# Altium schematic symbol library MAIN BOARD CERES.SCHLIB: 68 symbols (part 1 of 2)
Pins are listed as number, name and electrical type; pins without a type are passive.

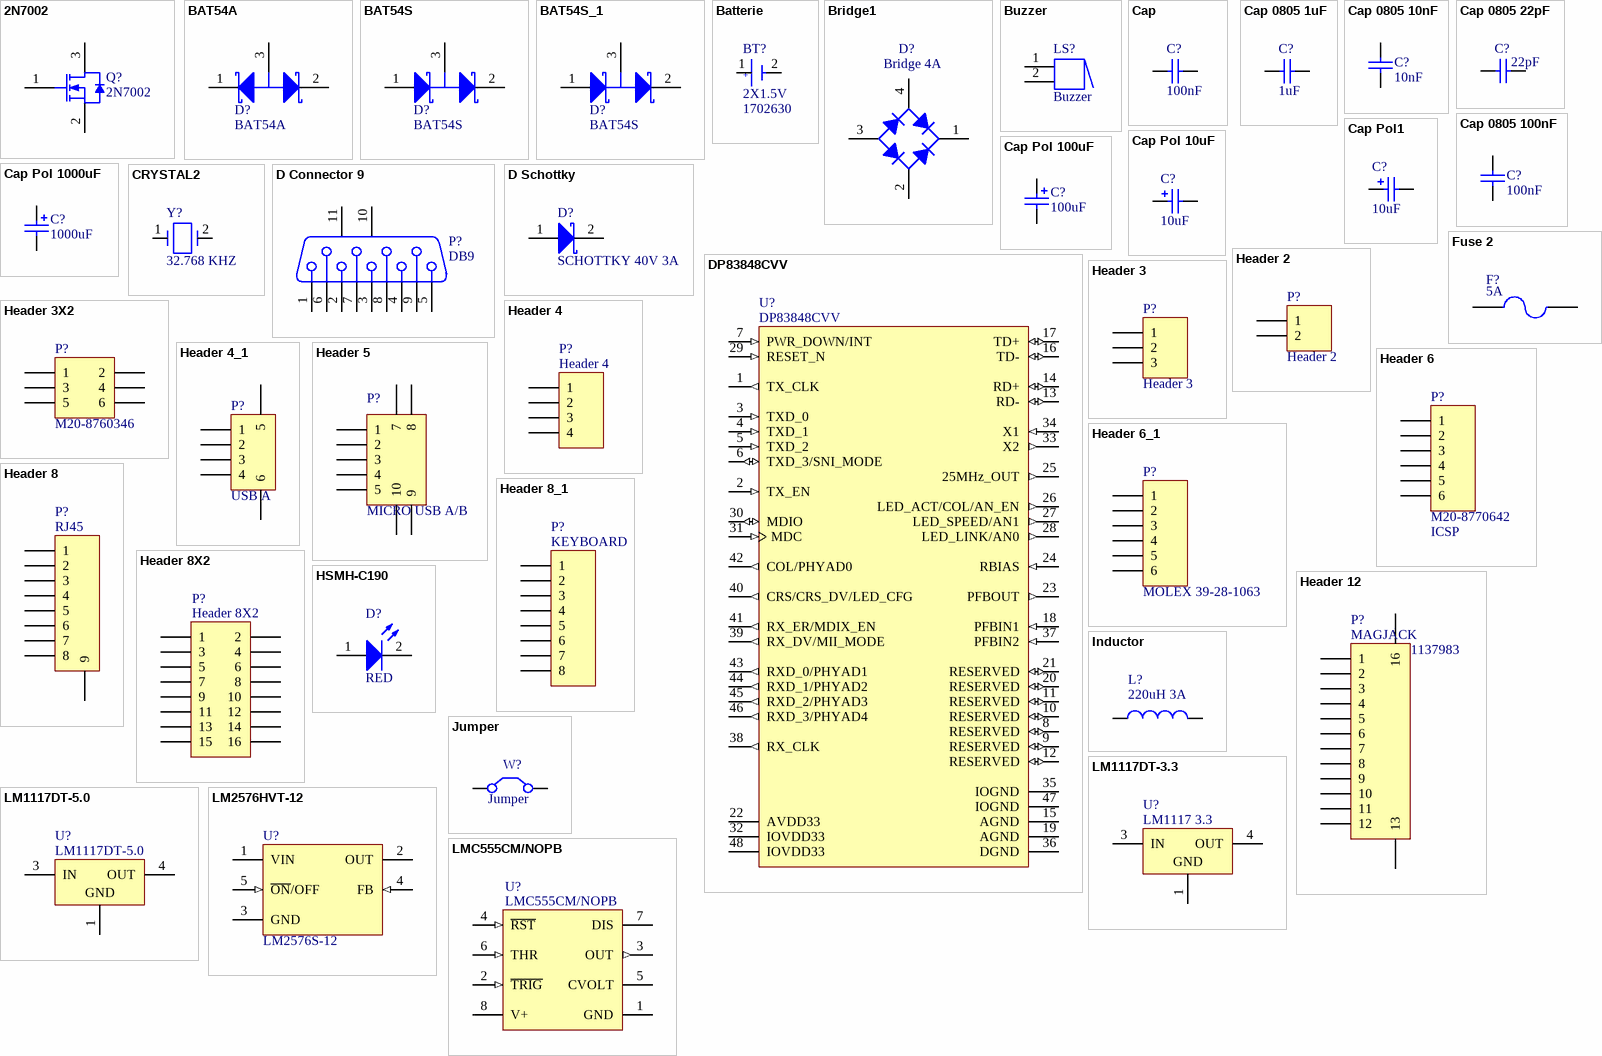
[diagram p0: symbols 2N7002 to LMC555CM/NOPB]

## 2N7002
designator Q?
N-channel Enhancement Mode Field-effect Transistor; Manufacturer: STMICROELECTRONICS; Published: 17-Sep-2003; LatestRevisionDate: 12-Dec-2006; LatestRevisionNote: IPC-7351 Footprint Added.; DatasheetVersion: 27-Jul-2000; PackageVersion: May-1999; PackageReference: SOT23; Publisher: Altium Limited; PackageDescription: 3-Pin SOT-23 Package 0.95 mm Pitch, 2.3 mm Lead Span; ComponentLink1Description: Manufacturer Link; ComponentLink1URL: http://www.semiconductors.philips.com/; ComponentLink2Description: Datasheet; ComponentLink2URL: http://www.semiconductors.philips.com/acrobat/datasheets/2N7002_4.pdf; Supplier 1: Farnell; Supplier Part Number 1: 9512608; Manufacturer Part Number: 2N7002; RoHS: YES; Pricing 1: 1=0,56, 25=0,48, 100=0,44, 250=0,43, 1000=0,42 (EUR); ComponentLink3URL: http://www.st.com/web/en/resource/technical/document/datasheet/CD00005134.pdf; ComponentLink3Description: http://www.st.com/web/en/resource/technical/document/datasheet/CD00005134.pdf
simulation model 2N7002 (SUBCKT)
footprint SOT23
pins: 1 G, 2 S, 3 D

## BAT54A
designator D?
Schottky Barrier Double Diode; Manufacturer: FAIRCHILD SEMICONDUCTOR; Courant, If moy.: 200; Tension, Vrrm: 30; Tension, Vf max..: 320; Temps trr max.: 5; Courant, Ifs max.: 600; Température d'utilisation min: -55; Température de fonctionnement max..: 150; Type de boîtier diode: SOT-23; Nombre de broches: 3; SVHC: No SVHC (20-Jun-2013); Configuration diode: Double anode commune; Courant, If, Vf: 1; Marquage, CMS: L42; Température de fonctionnement: -55°C à +150; Type de terminaison: SMD; Supplier 1: Farnell; Supplier Part Number 1: 1228222; Manufacturer Part Number: BAT54A; RoHS: YES; Pricing 1: 5=0,084, 25=0,082, 100=0,036, 1000=0,032, 3000=0,03 (EUR); Diode Type: Schottky; MSL: MSL 1 - Illimité; Température, Tj max..: 150; Type de boîtier: SOT-23; courant Ifsm: 600; ComponentLink1URL: http://www.farnell.com/datasheets/1718084.pdf; ComponentLink1Description: http://www.farnell.com/datasheets/1718084.pdf; ComponentLink2URL: http://www.farnell.com/datasheets/410597.pdf; ComponentLink2Description: http://www.farnell.com/datasheets/410597.pdf
footprint SOT23
pins: 1 K1, 2 K2, 3 A

## BAT54S
designator D?
Schottky Barrier Double Diode; Manufacturer: MULTICOMP; Courant, If moy.: 200; Tension, Vrrm: 30; Tension, Vf max..: 400; Temps trr max.: 5; Courant, Ifs max.: 600; Type de boîtier diode: SOT-23; Nombre de broches: 3; SVHC: No SVHC (19-Dec-2012); Configuration diode: Dual Series; Température, Tj max..: 150; Type de terminaison: SMD; Température d'utilisation min: -55; Courant, If, Vf: 10; Courant, Ir, max..: 2; Marquage, CMS: L44; Température de fonctionnement: -55°C à +150; Supplier 1: Farnell; Supplier Part Number 1: 1621835; Manufacturer Part Number: BAT54S; RoHS: YES; Stock 1: 52055; Pricing 1: 10=0,102, 250=0,074, 1000=0,06, 3000=0,053 (EUR); Diode Type: Schottky; Type de boîtier: SOT-23; courant Ifsm: 600; ComponentLink1URL: http://www.farnell.com/datasheets/1317753.pdf; ComponentLink1Description: http://www.farnell.com/datasheets/1317753.pdf; Température de fonctionnement max..: 150
footprint SOT23
pins: 1 A, 2 K, 3 C

## BAT54S_1
designator D?, comment BAT54S
Schottky Barrier Double Diode; Manufacturer: MULTICOMP; Published: 17-Sep-2003; LatestRevisionDate: 12-Dec-2006; LatestRevisionNote: IPC-7351 Footprint Added.; DatasheetVersion: 4-Mar-2002; PackageVersion: May-1999; PackageReference: SOT23; Publisher: Altium Limited; PackageDescription: 3-Pin SOT-23 Package 0.95 mm Pitch, 2.3 mm Lead Span; ComponentLink1Description: Manufacturer Link; ComponentLink1URL: http://www.semiconductors.philips.com/; ComponentLink2Description: Datasheet; ComponentLink2URL: http://www.semiconductors.philips.com/acrobat/datasheets/BAT54_SERIES_4.pdf; Supplier 1: Farnell; Supplier Part Number 1: 1621835; Manufacturer Part Number: BAT54S; RoHS: YES; Stock 1: 51548; Pricing 1: 10=0,102, 250=0,074, 1000=0,06, 3000=0,053 (EUR); ComponentLink3URL: http://www.farnell.com/datasheets/1317753.pdf; ComponentLink3Description: http://www.farnell.com/datasheets/1317753.pdf
footprint SOT-23
pins: 1 A, 2 K, 3 C

## Batterie
designator BT?, comment 2X1.5V  Supplier Part Number 1: 1702630
Manufacturer: KEYSTONE; Manufacturer Part Number: 2462; Battery Sizes Accepted: AA; Nombre de piles: 2; Montage support de batterie: Traversant; Cosses de batterie: Broches CI; SVHC: No SVHC (19-Dec-2012); A utiliser avec: AA Batteries; Type d'accessoire: Battery Holder; Type de borne: CI; Type de montage: Trou traversant PCB; Supplier 1: Farnell; RoHS: YES; Stock 1: 941; Pricing 1: 1=1,3, 25=1,2, 50=1,09, 100=1,02, 250=0,94 (EUR); Nombre de cellules: 2; Tailles de batterie acceptées: AA; ComponentLink1URL: http://www.farnell.com/cad/1714047.pdf; ComponentLink1Description: http://www.farnell.com/cad/1714047.pdf; ComponentLink2URL: http://www.keyelco.com/pdfs/p20.pdf; ComponentLink2Description: http://www.keyelco.com/pdfs/p20.pdf
footprint 2462 (Support pile AA X 2 Keystone)
pins: 1 +, 2

## Bridge1
designator D?, comment Bridge 4A
Full Wave Diode Bridge; Manufacturer: VISHAY GENERAL SEMICONDUCTOR; Manufacturer Part Number: GBU6B-E3/45; Nombre de phases: Une; Tension, Vrrm: 100; Courant, If moy.: 6; Tension, Vf max..: 1; Type de boîtier pont redresseur: GBU; Nombre de broches: 4; Diode Mounting Type: Traversant; Température d'utilisation min: -55; Température de fonctionnement max..: 150; Configuration diode: Double; Courant, Ifs max.: 175; Diode Type: Pont redresseur, monophasé; Hauteur: 18.8; Inflammabilité: UL; Largeur (externe): 22.3; Marquage composant: GBU6; Profondeur: 3.56; Température de fonctionnement: -55°C à +150; Température, Ta: 40; Tension, entrée: 70; Type de borne: Wire lead; Supplier 1: Farnell; Supplier Part Number 1: 9549480; RoHS: YES; Pricing 1: 1=0,53, 25=0,51, 100=0,5, 1000=0,49 (EUR); Courant, sortie max.: 6; Hauteur corps max..: 18.8; Longueur/hauteur: 18.8; Tension, entrée efficace: 70; Type de boîtier: GBU; ComponentLink1URL: http://www.vishay.com/doc?88615; ComponentLink1Description: http://www.vishay.com/doc?88615
simulation model BRIDGE (Spice Subcircuit)
footprint Pont GBU
pins: 1 K, 2 C, 3 A, 4 C

## Buzzer
designator LS?
Magnetic Transducer Buzzer; Published: 24-Mar-1999; LatestRevisionDate: 17-Dec-2003; LatestRevisionNote: Schematic revised, PCB Footprint replaced.; DatasheetVersion: 17-Dec-2003; PackageReference: ABSM-1574; Publisher: Altium Limited; PackageDescription: Magnetic Transducer Buzzer; ComponentLink1Description: Manufacturer Link; ComponentLink1URL: http://www.megastar.com/linecard/buzzmode/index.php
footprint Buzzer ABI-017-RC (1504107)
pins: 1, 2
1 alternate drawing of the same symbol

## Cap
designator C?, comment 100nF
Capacitor; Manufacturer: MULTICOMP; Manufacturer Part Number: MCCA000296; Supplier 1: Farnell; Supplier Part Number 1: 1759167; Stock 1: 225269; Pricing 1: 100=0,01, 500=0,008, 1000=0,006, 4000=0,005 (EUR); ComponentLink1URL: http://www.farnell.com/datasheets/1520827.pdf; ComponentLink1Description: http://www.farnell.com/datasheets/1520827.pdf
simulation model CAP (Capacitor)
signal-integrity model Cap
footprint C0805
pins: 1, 2

## Cap 0805 1uF
designator C?, comment 1uF
Capacitor; Manufacturer: MULTICOMP; Manufacturer Part Number: MCCA000549; Product Range: MULTICOMP - MCCA Series; Capacité: 1; Tolérance de capacité: +80%, -20%; Diélectrique: Y5; Type de boîtier de condensateur: 0805 [2012 Metric]; Type de packaging: Cut Tape; SVHC: No SVHC (20-Jun-2013); Capacitor Terminals: SMD; Température de fonctionnement: -30°C à +85; Supplier 1: Farnell; RoHS: YES; Pricing 1: 100=0,018, 500=0,012, 1000=0,009, 3000=0,006 (EUR); ComponentLink1URL: http://www.farnell.com/datasheets/1723208.pdf; ComponentLink1Description: http://www.farnell.com/datasheets/1723208.pdf; Supplier Part Number 1: 1759429
simulation model CAP (Semiconductor Capacitor)
signal-integrity model Cap Semi
footprint C0805
pins: 1, 2

## Cap 0805 10nF
designator C?, comment 10nF
Capacitor; Manufacturer: MULTICOMP; Manufacturer Part Number: MC0805B103M500CT; Supplier 1: Farnell; RoHS: YES; Pricing 1: 1=0,009, 10=0,008, 100=0,008, 500=0,006, 1000=0,006 (EUR); ComponentLink1URL: http://www.newark.com/pdfs/datasheets/spc/Ta-1100.pdf; ComponentLink1Description: http://www.newark.com/pdfs/datasheets/spc/Ta-1100.pdf; Supplier Part Number 1: 1708707
simulation model CAP (Capacitor)
signal-integrity model Cap
footprint C0805
pins: 1, 2

## Cap 0805 22pF
designator C?, comment 22pF
Capacitor; Manufacturer: YAGEO; Manufacturer Part Number: CC0805JRNPO9BN220; Supplier 1: Farnell; Supplier Part Number 1: 1816807; RoHS: YES; Pricing 1: 1=0,019, 25=0,016, 50=0,014, 100=0,011, 200=0,009, 1000=0,008 (EUR); ComponentLink1URL: http://www.farnell.com/datasheets/1132289.pdf; ComponentLink1Description: http://www.farnell.com/datasheets/1132289.pdf; Stock 1: 154
simulation model CAP (Capacitor)
signal-integrity model Cap
footprint C0805
pins: 1, 2

## Cap 0805 100nF
designator C?, comment 100nF
Capacitor; Manufacturer: MULTICOMP; Manufacturer Part Number: MCCA000296; Supplier 1: Farnell; Supplier Part Number 1: 1759167; Pricing 1: 100=0,01, 500=0,008, 1000=0,006, 4000=0,005 (EUR); ComponentLink1URL: http://www.farnell.com/datasheets/1520827.pdf; ComponentLink1Description: http://www.farnell.com/datasheets/1520827.pdf
simulation model CAP (Capacitor)
signal-integrity model Cap
footprint C0805
pins: 1, 2

## Cap Pol1
designator C?, comment 10uF
Polarized Capacitor; Manufacturer: KEMET; Manufacturer Part Number: EXV106M025A9BAA; Supplier 1: Farnell; Supplier Part Number 1: 2069174; RoHS: YES; Pricing 1: 10=0,111, 100=0,085, 500=0,074, 1000=0,07, 5000=0,066 (EUR); ComponentLink1URL: http://www.farnell.com/datasheets/1500293.pdf; ComponentLink1Description: http://www.farnell.com/datasheets/1500293.pdf
simulation model CAP (Capacitor)
footprint KEMET_4
pins: 1, 2
1 alternate drawing of the same symbol

## Cap Pol 10uF
designator C?, comment 10uF
Polarized Capacitor; Manufacturer: KEMET; Manufacturer Part Number: EXV106M025A9BAA; Supplier 1: Farnell; Supplier Part Number 1: 2069174; RoHS: YES; Pricing 1: 10=0,111, 100=0,085, 500=0,074, 1000=0,07, 5000=0,066 (EUR); ComponentLink1URL: http://www.farnell.com/datasheets/1500293.pdf; ComponentLink1Description: http://www.farnell.com/datasheets/1500293.pdf
simulation model CAP (Capacitor)
footprint KEMET_4
pins: 1, 2
1 alternate drawing of the same symbol

## Cap Pol 100uF
designator C?, comment 100uF
Polarized Capacitor; Manufacturer: EPCOS; Manufacturer Part Number: B41142A4107M; Product Range: EPCOS - B41142 Series; Capacité: 100; Tolérance de capacité: ± 20%; Tension: 16; Type de boîtier de condensateur: Radial Can - SMD; Diamètre: 6.3; Résistance, ESR: 0.16; Hauteur: 7.7; Courant d'ondulation c.a.: 300; Type de packaging: Cut Tape; Durée de vie @ température: 2000 heures @ 105; Température d'utilisation min: -55; Température de fonctionnement max..: 105; SVHC: No SVHC (19-Dec-2012); Impédance: 0.26; Température de fonctionnement: -55°C à +105; Température, ESR: 20; Type de boîtier: CMS; Supplier 1: Farnell; RoHS: YES; Pricing 1: 10=0,123, 50=0,095, 100=0,078, 250=0,07, 1000=0,062 (EUR); Courant d'ondulation c.a. à  100Hz: 300; Fréquence, impédance: 100; Longueur/hauteur: 7.7; Température, courant ondulatoire: 105; Température, impédance: 20; ComponentLink1URL: http://www.epcos.com/inf/20/30/db/alu_x/B41142.pdf; ComponentLink1Description: http://www.epcos.com/inf/20/30/db/alu_x/B41142.pdf; Supplier Part Number 1: 1735328
simulation model CAP (Capacitor)
signal-integrity model Cap Pol
footprint Kemet_63 (Precision Wire Wound Inductor, 2-Leads, Body 7,7x6,5mm, IPC Medium Density)
pins: 1, 2
1 alternate drawing of the same symbol

## Cap Pol 1000uF
designator C?, comment 1000uF
Polarized Capacitor; Manufacturer: PANASONIC; Manufacturer Part Number: EEEFT1C102AP; Product Range: PANASONIC - FT Series; Capacité: 1000; Tolérance de capacité: ± 20%; Tension: 16; Type de boîtier de condensateur: Radial Can - SMD; Diamètre: 10; Résistance, ESR: 0.06; Hauteur: 10.2; Courant d'ondulation c.a.: 1190; Type de packaging: Cut Tape; Durée de vie @ température: 2000 heures @ 105; Température d'utilisation min: -55; Température de fonctionnement max..: 105; Température de fonctionnement: -55°C à +105; Supplier 1: Farnell; Supplier Part Number 1: 2065974; RoHS: YES; Pricing 1: 5=1,16, 50=0,76, 100=0,49, 500=0,45, 1000=0,44 (EUR); ComponentLink1URL: http://industrial.panasonic.com/www-data/pdf/ABA0000/ABA0000CE135.pdf; ComponentLink1Description: http://industrial.panasonic.com/www-data/pdf/ABA0000/ABA0000CE135.pdf; ComponentLink2URL: http://www.farnell.com/cad/1703921.zip; ComponentLink2Description: http://www.farnell.com/cad/1703921.zip
simulation model CAP (Capacitor)
signal-integrity model Cap Pol
footprint KEMET_10
pins: 1, 2
1 alternate drawing of the same symbol

## CRYSTAL2
designator Y?, comment 32.768 KHZ
Manufacturer: FOX ELECTRONICS; Manufacturer Part Number: FSRLF327.; Frequency: 32.768; Frequency Tolerance: ± 20; Load Capacitance: 12.5; Crystal Mounting Type: SMD; No. of Pins: 2; Supplier 1: Farnell; Supplier Part Number 1: 2058067; RoHS: YES; Pricing 1: 1=0,95, 6000=0,76, 9000=0,66, 30000=0,59, 51000=0,56 (EUR); Operating Temperature Min: -40; Operating Temperature Max: 85; ComponentLink1URL: http://www.foxonline.com/pdfs/fsrlf.pdf; ComponentLink1Description: http://www.foxonline.com/pdfs/fsrlf.pdf
footprint FSRLF (SMD Tuning Fork)
pins: 1, 2

## D Connector 9
designator P?, comment DB9
Receptacle Assembly, 9 Position, Right Angle; Manufacturer: TE CONNECTIVITY / AMP; Manufacturer Part Number: 2-338313-2; Type de connecteur: Sub-D; Série: HDP-20; Genre: Embase; Nombre de contacts: 9; Nombre de rangées: 2; Plaquage du contact: Or; Matériau du contact: Bronze phosphoreux; Méthode de terminaison: A souder; Supplier 1: Farnell; Supplier Part Number 1: 1772804; RoHS: YES; Stock 1: 500; Pricing 1: 10=5,54, 50=5,31, 100=5,09, 250=4,63, 500=4,25 (EUR); ComponentLink1URL: http://www.tycoelectronics.com/commerce/DocumentDelivery/DDEController?Action=srchrtrv&DocNm=2-338313-2&DocType=Customer+View+Model&DocLang=English; ComponentLink1Description: http://www.tycoelectronics.com/commerce/DocumentDelivery/DDEController?Action=srchrtrv&DocNm=2-338313-2&DocType=Customer+View+Model&DocLang=English; ComponentLink2URL: http://www.farnell.com/cad/1599981.pdf; ComponentLink2Description: http://www.farnell.com/cad/1599981.pdf; ComponentLink3URL: http://www.farnell.com/datasheets/1643129.pdf; ComponentLink3Description: http://www.farnell.com/datasheets/1643129.pdf
signal-integrity model Connector
footprint SUBD9_F_V (Subd9_Tyco_2-338313-2)
pins: 1, 2, 3, 4, 5, 6, 7, 8, 9, 10 MH1, 11 MH2

## D Schottky
designator D?, comment SCHOTTKY 40V 3A
Schottky Diode; Manufacturer: VISHAY; Manufacturer Part Number: SS3P4-M3/84A; Configuration diode: Une; Tension, Vrrm: 40; Courant, If moy.: 3; Tension, Vf max..: 600; Courant, Ifs max.: 50; Température d'utilisation min: -55; Température de fonctionnement max..: 150; Type de boîtier diode: SMP; Nombre de broches: 2; Température de fonctionnement: -55°C à +150; Published: 8-Jun-2000; LatestRevisionDate: 17-Jul-2002; LatestRevisionNote: Re-released for DXP Platform.; PackageReference: SMB; Publisher: Altium Limited; PackageDescription: DO-214-AA/SMB; 2 C-Bend Leads; Body 5.3 x 3.6 mm, inc. leads (LxW); Code_JEDEC: DO-214-AA; Supplier 1: Farnell; Supplier Part Number 1: 1812492; RoHS: YES; Pricing 1: 1=0,25, 25=0,21, 100=0,192, 250=0,188, 500=0,183 (EUR); Diode Type: Schottky; ComponentLink1URL: http://www.vishay.com/docs/88954/ss3p4.pdf; ComponentLink1Description: http://www.vishay.com/docs/88954/ss3p4.pdf
simulation model SKYDIODE (Diode)
signal-integrity model D Schottky
footprint DO220AA
pins: 1 A, 2 K

## DP83848CVV
designator U?
PHYTER® Commercial Temperature Single Port 10/100 Mb/s Ethernet Physical Layer Transceiver, 48-pin LQFP; Manufacturer: National Semiconductor; PackageTopMarking: NSUZXYTT*DP83848VV*VBC; PowerWise: N; CompType: Interface IC; Published: 4-Dec-2008; DatasheetVersion: May-2008; PackageVersion: revE, May-2007; PackageReference: VBH48A; Publisher: Altium Limited; PackageDescription: LQFP, 7 x 7 x 1.4mm, 48 Lead, 0.5mm Pitch; Supplier 1: Farnell; Supplier Part Number 1: 1286816; Supplier 2: Farnell; Supplier Part Number 2: 1528379; PartNumber: DP83848CVV; RoHS: Y; PinCount: 48; ComponentLink1Description: DP83848C Datasheet; ComponentLink1URL: http://www.national.com/ds/DP/DP83848C.pdf; ComponentLink2Description: DP83848C Web Page; ComponentLink2URL: http://www.national.com/pf/DP/DP83848C.html; ComponentLink3Description: VBH48A Package Page; ComponentLink3URL: http://www.national.com/packaging/folders/vbh48a.html
footprint TQFP44 (TQFP44_PAS:0.8)
footprint VBH48A_L (Thin QFP, 48-Leads, Body 7x7mm, Pitch 0.5mm, IPC High Density)
footprint VBH48A_M (Thin QFP, 48-Leads, Body 7x7mm, Pitch 0.5mm, IPC Low Density)
footprint LQFP48
pins: 1 TX_CLK (out), 2 TX_EN (in), 3 TXD_0 (in), 4 TXD_1 (in), 5 TXD_2 (in), 6 TXD_3/SNI_MODE (io), 7 PWR_DOWN/INT (in), 8 RESERVED (io), 9 RESERVED (io), 10 RESERVED (io), 11 RESERVED (io), 12 RESERVED (io), 13 RD- (io), 14 RD+ (io), 15 AGND (power), 16 TD- (io), 17 TD+ (io), 18 PFBIN1 (in), 19 AGND (power), 20 RESERVED (io), 21 RESERVED (io), 22 AVDD33 (power), 23 PFBOUT (out), 24 RBIAS (in), 25 25MHz_OUT (out), 26 LED_ACT/COL/AN_EN (out), 27 LED_SPEED/AN1 (out), 28 LED_LINK/AN0 (out), 29 RESET_N (in), 30 MDIO (io), 31 MDC (in), 32 IOVDD33 (power), 33 X2 (out), 34 X1 (in), 35 IOGND (power), 36 DGND (power), 37 PFBIN2 (in), 38 RX_CLK (out), 39 RX_DV/MII_MODE (out), 40 CRS/CRS_DV/LED_CFG (out), 41 RX_ER/MDIX_EN (out), 42 COL/PHYAD0 (out), 43 RXD_0/PHYAD1 (out), 44 RXD_1/PHYAD2 (out), 45 RXD_2/PHYAD3 (out), 46 RXD_3/PHYAD4 (out), 47 IOGND (power), 48 IOVDD33 (power)

## Fuse 2
designator F?, comment 5A
Fuse; Manufacturer: KEYSTONE; Manufacturer Part Number: 4527; Fusible 5X20: 1123209; Published: 8-Jun-2000; LatestRevisionDate: 17-Jul-2002; LatestRevisionNote: Re-released for DXP Platform.; PackageReference: PIN-W2/E2.8; Publisher: Altium Limited; PackageDescription: Thru-Hole; 2 Leads; Supplier 1: Farnell; Supplier Part Number 1: 2301274+2301275+1123183; RoHS: YES; Pricing 1: 1=0,59, 250=0,45, 500=0,4, 1000=0,36, 5000=0,33 (EUR); ComponentLink1URL: http://www.keyelco.com/userAssets/file/M60p42.pdf; ComponentLink1Description: http://www.keyelco.com/userAssets/file/M60p42.pdf
simulation model FUSE (Spice Subcircuit)
footprint FUS5X20
pins: 1, 2

## Header 2
designator P?
Header, 2-Pin; Manufacturer: HARWIN; Manufacturer Part Number: M20-8770242; Product Range: HARWIN - M20-87 Series; Terminaison du contact: PCB; Genre: Connecteur mâle; Nombre de contacts: 2; Nombre de rangées: 1; Pas: 2.54; Plaquage du contact: Or; Matériau du contact: Laiton; SVHC: No SVHC (20-Jun-2013); LatestRevisionDate: 17-Jul-2002; LatestRevisionNote: Re-released for DXP Platform.; Publisher: Altium Limited; Supplier 1: Farnell; Supplier Part Number 1: 1895211; RoHS: YES; Pricing 1: 10=0,137, 20=0,136, 50=0,135, 100=0,133, 250=0,128, 500=0,12 (EUR); ComponentLink1URL: http://www.farnell.com/cad/1330190.pdf; ComponentLink1Description: http://www.farnell.com/cad/1330190.pdf
signal-integrity model Connector
footprint M20_1X2 (Connecteur Harwin_M20-8770242)
pins: 1, 2

## Header 3
designator P?
Header, 3-Pin; Manufacturer: TE CONNECTIVITY / BUCHANAN; Manufacturer Part Number: 796636-3; LatestRevisionDate: 17-Jul-2002; LatestRevisionNote: Re-released for DXP Platform.; Publisher: Altium Limited; Supplier 1: Farnell; Supplier Part Number 1: 2059780; RoHS: YES; Pricing 1: 10=0,68, 100=0,51, 500=0,43, 1000=0,36, 2000=0,35, 5000=0,33 (EUR); ComponentLink1URL: http://www.farnell.com/cad/1652960.pdf; ComponentLink1Description: http://www.farnell.com/cad/1652960.pdf; ComponentLink2URL: http://www.farnell.com/datasheets/1650926.pdf; ComponentLink2Description: http://www.farnell.com/datasheets/1650926.pdf
signal-integrity model Connector
footprint CO3P508
pins: 1, 2, 3

## Header 3X2
designator P?, comment M20-8760346
Header, 3-Pin, Dual row; Manufacturer: Harwin; Mounting Angle: Vertical; Pitch: 2.54 mm; Number of Positions / Contacts: 6; Supplier 1: Mouser; Supplier Part Number 1: 855-M20-8760346; Manufacturer Part Number: M20-8760346; RoHS: RoHS Compliant; Category: Headers & Wire Housings; Stock 1: 0; Pricing 1: 2250=0.285, 2500=0.213, 10000=0.211 (AUD); Contact Plating: Gold; Number of Rows: 2; Packaging: Bag; Series: M20-876; Termination Style: Solder; Mounting Style: SMD/SMT; Product Category: 2.54mm M20 SMT Connectors; Product Type: Headers - Pin Strip; Standard Pack Qty: 1000; RoHS - Mouser: Y; Minimum Order Quantity: 2250; Reeling: False; ComponentLink1URL: http://harwin.com/include/downloads/drawings/M20-876.PDF; ComponentLink1Description: http://harwin.com/include/downloads/drawings/M20-876.PDF
signal-integrity model Connector
footprint M20-2X3 (Connecteur Harwin_M20-877342)
pins: 1, 2, 3, 4, 5, 6

## Header 4
designator P?
Header, 4-Pin; Manufacturer: TE CONNECTIVITY / BUCHANAN; Manufacturer Part Number: 796636-4; Terminaison du contact: PCB; Genre: Embase; Nombre de contacts: 4; Nombre de rangées: 1; Pas: 5.08; Plaquage du contact: Etain; Matériau du contact: Laiton; LatestRevisionDate: 17-Jul-2002; LatestRevisionNote: Re-released for DXP Platform.; Publisher: Altium Limited; Supplier 1: Farnell; Supplier Part Number 1: 2059781; RoHS: YES; Pricing 1: 10=0,88, 100=0,67, 500=0,56, 1000=0,48, 2000=0,46, 5000=0,43 (EUR); Product Range: -; ComponentLink1URL: http://www.farnell.com/cad/1652960.pdf; ComponentLink1Description: http://www.farnell.com/cad/1652960.pdf; ComponentLink2URL: http://www.farnell.com/datasheets/1650926.pdf; ComponentLink2Description: http://www.farnell.com/datasheets/1650926.pdf
footprint CO4P508
signal-integrity model Connector
pins: 1, 2, 3, 4

## Header 4_1
designator P?, comment USB A
USB 2.0 Connector A; Manufacturer: LUMBERG; Manufacturer Part Number: 2410 06; Type de connecteur: USB Type A; Série: 2410; Genre: Embase; Nombre de contacts: 4; Terminaison du contact: A souder; Montage connecteur: CI; Plaquage du contact: Or; Matériau du contact: Cuivre; SVHC: No SVHC (19-Dec-2012); Body Plating: Etain; Courant: 1; Montage, orientation: 90°; Nombre de cycles d'accouplements: 1500; Plaquage borne: Tin; Résistance, contact: 30; Température de fonctionnement max..: +105; Température d'utilisation min: -55; Tension, vérification: 750; Type de montage: Montage en surface; Supplier 1: Farnell; Supplier Part Number 1: 1308874; RoHS: YES; Pricing 1: 1=0,63, 10=0,53, 50=0,51, 100=0,48 (EUR); Contact Material: CuSn; Tension c.a.: 30; ComponentLink1URL: http://www.farnell.com/datasheets/1715380.pdf; ComponentLink1Description: http://www.farnell.com/datasheets/1715380.pdf
footprint USB  2410 06 (LUMBERG 2410 06)
pins: 1, 2, 3, 4, 5, 6

## Header 5
designator P?, comment MICRO USB A/B
Header, 5-Pin; Manufacturer: FCI; Manufacturer Part Number: 10104111-0001LF; Type de connecteur: USB Micro A/B; Série: 10104111; Genre: Embase; Nombre de contacts: 5; Terminaison du contact: Montage en surface à angle droit; Montage connecteur: CI; Plaquage du contact: Or; Matériau du contact: Cuivre; SVHC: No SVHC (20-Jun-2013); LatestRevisionDate: 17-Jul-2002; LatestRevisionNote: Re-released for DXP Platform.; Publisher: Altium Limited; Supplier 1: Farnell; Supplier Part Number 1: 2293755; RoHS: YES; Pricing 1: 1=0,98, 10=0,84, 25=0,76, 50=0,67, 100=0,64, 250=0,57 (EUR); ComponentLink1URL: http://portal.fciconnect.com/Comergent//fci/drawing/10104111.pdf; ComponentLink1Description: http://portal.fciconnect.com/Comergent//fci/drawing/10104111.pdf
footprint USB FCI 10104111
pins: 1, 2, 3, 4, 5, 7, 8, 9, 10

## Header 6
designator P?, comment M20-8770642
Header, 6-Pin; Manufacturer: HARWIN; Type de connecteur: Contact fil-à-carte; Série: M20; Terminaison du contact: Montage en surface vertical; Genre: Embase; Nombre de contacts: 6; Nombre de rangées: 1; Pas: 2.54; Plaquage du contact: Or; Matériau du contact: Laiton; SVHC: No SVHC (19-Dec-2012); Supplier 1: Farnell; Supplier Part Number 1: 1517384; Manufacturer Part Number: M20-8770642; RoHS: YES; Stock 1: 3471; Pricing 1: 10=0,69, 20=0,66, 50=0,62, 100=0,6, 250=0,56, 500=0,49 (EUR); Pas, rang: 2.54; ComponentLink1URL: http://www.farnell.com/datasheets/1089524.pdf; ComponentLink1Description: http://www.farnell.com/datasheets/1089524.pdf; ComponentLink2URL: http://www.farnell.com/datasheets/5481.pdf; ComponentLink2Description: http://www.farnell.com/datasheets/5481.pdf
signal-integrity model Connector
footprint M20_1X6 (Connecteur Harwin_M20-8770642)
pins: 1, 2, 3, 4, 5, 6
text: ICSP

## Header 6_1
designator P?, comment MOLEX 39-28-1063
Connecteur MDB; Supplier 1: Farnell; Supplier Part Number 1: 9732101; Manufacturer: MOLEX; Manufacturer Part Number: 39-28-1063; RoHS: YES; Pricing 1: 1=0,66, 100=0,62, 250=0,58, 500=0,52, 1000=0,46 (EUR); ComponentLink1URL: http://www.molex.com/pdm_docs/sd/039310028_sd.pdf; ComponentLink1Description: http://www.molex.com/pdm_docs/sd/039310028_sd.pdf; ComponentLink2URL: http://www.youtube.com/watch?v=pjOsgpqyzYE; ComponentLink2Description: http://www.youtube.com/watch?v=pjOsgpqyzYE; ComponentLink3URL: http://www.farnell.com/datasheets/1729684.pdf; ComponentLink3Description: http://www.farnell.com/datasheets/1729684.pdf
footprint MOLEX 39-28-1063
pins: 1, 2, 3, 4, 5, 6

## Header 8
designator P?, comment RJ45
Header, 8-Pin; Manufacturer: MOLEX; Manufacturer Part Number: 85513-5013; Genre: Embase; Nombre de contacts: 8; Nombre de ports: 1; Catégorie LAN: Cat3; Terminaison du contact: Montage en surface vertical; Plaquage du contact: Or; Matériau du contact: Bronze phosphoreux; Approval Category: UL 94V-0; Couleur: Black; Courant: 1.5; Force diélectrique, Vca: 1000; Inflammabilité: UL94V-0; Largeur (externe): 15.9; Longueur/hauteur: 13; Matière: Glass Filled LCP; Profondeur: 18.8; Résistance d'isolement: 500; Résistance, contact: 20; Température de fonctionnement max..: 80; Température d'utilisation min: -40; Tension c.a.: 125; Supplier 1: Farnell; Supplier Part Number 1: 1345055; RoHS: YES; Pricing 1: 1=0,98, 10=0,92, 50=0,86, 100=0,74 (EUR); Type de connecteur: RJ45; Nombre de positions: 8; Body Plating: Or; Nombre de voies: 8; ComponentLink1URL: http://www.farnell.com/cad/1734187.pdf; ComponentLink1Description: http://www.farnell.com/cad/1734187.pdf; ComponentLink2URL: http://www.farnell.com/datasheets/1733622.pdf; ComponentLink2Description: http://www.farnell.com/datasheets/1733622.pdf
signal-integrity model Connector
footprint MOLEX-RJ45_855135013
pins: 1, 2, 3, 4, 5, 6, 7, 8, 9

## Header 8_1
designator P?, comment KEYBOARD
Header, 8-Pin; Manufacturer: HARWIN; Manufacturer Part Number: M20-8770842; LatestRevisionDate: 17-Jul-2002; LatestRevisionNote: Re-released for DXP Platform.; Publisher: Altium Limited; Supplier 1: Farnell; Supplier Part Number 1: 1517385; RoHS: YES; Pricing 1: 10=0,9, 20=0,86, 50=0,8, 100=0,77, 250=0,75, 500=0,71 (EUR); ComponentLink1URL: http://www.farnell.com/datasheets/1089525.pdf; ComponentLink1Description: http://www.farnell.com/datasheets/1089525.pdf; ComponentLink2URL: http://www.farnell.com/datasheets/5481.pdf; ComponentLink2Description: http://www.farnell.com/datasheets/5481.pdf
signal-integrity model Connector
footprint M20_1X8 (Connecteur Harwin_M20-8770742)
pins: 1, 2, 3, 4, 5, 6, 7, 8

## Header 8X2
designator P?
Header, 8-Pin, Dual row; Manufacturer: HARWIN; Manufacturer Part Number: M20-8760842; LatestRevisionDate: 17-Jul-2002; LatestRevisionNote: Re-released for DXP Platform.; Publisher: Altium Limited; Supplier 1: Farnell; Supplier Part Number 1: 1517392; RoHS: YES; Pricing 1: 10=1,4, 20=1,39, 50=1,38, 100=1,37, 250=1,33, 500=1,26 (EUR); ComponentLink1URL: http://www.farnell.com/datasheets/1089519.pdf; ComponentLink1Description: http://www.farnell.com/datasheets/1089519.pdf; ComponentLink2URL: http://www.farnell.com/datasheets/5481.pdf; ComponentLink2Description: http://www.farnell.com/datasheets/5481.pdf
signal-integrity model Connector
footprint M20-2X8 (Connecteur Harwin_M20-8760842)
pins: 1, 2, 3, 4, 5, 6, 7, 8, 9, 10, 11, 12, 13, 14, 15, 16

## Header 12
designator P?, comment MAGJACK  Supplier Part Number 1: 1137983
Header, 12-Pin; Manufacturer: STEWART CONNECTOR; Manufacturer Part Number: SI-60062-F; LatestRevisionDate: 17-Jul-2002; LatestRevisionNote: Re-released for DXP Platform.; Publisher: Altium Limited; Supplier 1: Farnell; RoHS: YES; Stock 1: 1607; Pricing 1: 1=5,39, 10=5,07, 50=4,75, 100=4,65 (EUR); ComponentLink1URL: http://www.farnell.com/datasheets/1523782.pdf; ComponentLink1Description: http://www.farnell.com/datasheets/1523782.pdf; ComponentLink2URL: http://www.farnell.com/cad/1683659.pdf; ComponentLink2Description: http://www.farnell.com/cad/1683659.pdf; ComponentLink3URL: http://www.farnell.com/datasheets/79319.pdf; ComponentLink3Description: http://www.farnell.com/datasheets/79319.pdf
signal-integrity model Connector
footprint RJ45_8+LED
pins: 1, 2, 3, 4, 5, 6, 7, 8, 9, 10, 11, 12, 13, 16

## HSMH-C190
designator D?  Couleur: RED  (hidden comment: HSMH-C190)
Surface Mount Chip LED, Red; Manufacturer: AVAGO TECHNOLOGIES; Manufacturer Part Number: HSMH-C190.; Taille de lampe: 0.8mm x 1; Couleur de LED: Rouge; Intensité lumineuse: 17; Angle, vision: 170°; Courant, direct, If: 20; Tension, direct à  If: 1.8; Montage LED: CMS; Forme de lentille: Rectangulaire; Longueur d'onde typ.: 626; SVHC: No SVHC (19-Dec-2012); Dissipation de puissance: 65; Intensité lumineuse min. à  If: 2.8; Intensité lumineuse typique: 10; Largeur (externe): 0.8; Longueur d'onde dominante: 639; Longueur d'onde, crête: 630; Longueur/hauteur: 1.6; Matière: AlGaAs; Nombre de broches: 2; Orientation de montage opto: Dessus; Orientation sortie de lumière: Top Emitting; Température de fonctionnement: -30°C à +85; Température de fonctionnement max..: 85; Température, stockage min.: -40; Température d'utilisation min: -30; Tension, Vf max..: 2.6; Tension, Vf min.: 2.1; Type de LED: Standard; Supplier 1: Farnell; Supplier Part Number 1: 8554641; RoHS: YES; Stock 1: 13902; Pricing 1: 5=0,06, 25=0,059, 100=0,057, 250=0,052, 500=0,047 (EUR); MSL: MSL 2A - 4 semaines; Couleur, LED: Rouge; Profondeur: 0.8; Température, stockage max..: 85; Tension, Vf typ.: 1.8; ComponentLink1URL: http://www.farnell.com/datasheets/313031.pdf; ComponentLink1Description: http://www.farnell.com/datasheets/313031.pdf; ComponentLink2URL: http://www.farnell.com/datasheets/55927.pdf; ComponentLink2Description: http://www.farnell.com/datasheets/55927.pdf
simulation model Agl_HSMHC110 (Diode)
signal-integrity model LED
footprint 0603-LEDR
pins: 1 A, 2 K

## Inductor
designator L?, comment 220uH 3A
Inductor; Manufacturer: MURATA POWER SOLUTIONS; Manufacturer Part Number: 1422435C.; Product Range: MURATA - 1400 Series; Inductance: 220; Inductance Tolerance: ± 10%; Résistance DC max.: 0.096; Courant efficace (Irms): 3.5; SVHC: No SVHC (19-Dec-2012); Diamètre de la broche: 1.1; Diamètre du corps: 24; Diamètre, roue: 4.5; Facteur Q: 22; Fréquence de résonance: 2.8; Fréquence, facteur Q: 100; Hauteur: 14.5; Longueur cordon: 10; Nombre de broches: 2; Pas: 23.5; Type d'inductance: Power Inductor; Type de boîtier d'inductance: Radial Leaded; Supplier 1: Farnell; Supplier Part Number 1: 1077017; RoHS: YES; Pricing 1: 1=5,02, 10=4,7, 25=4,38, 50=4,15, 100=3,91, 250=3,68 (EUR); Courant de Saturation (Isat): 3.5; Dimensions Boîtier: 26.1mm x 14; Courant nominal DC: 3.5; Fréquence de résonance: 2.8; Longueur/hauteur: 14.5; ComponentLink1URL: http://www.murata-ps.com/data/magnetics/kmp_1400.pdf; ComponentLink1Description: http://www.murata-ps.com/data/magnetics/kmp_1400.pdf
footprint Ind-1422435C (Self MURATA _1077017)
simulation model INDUCTOR (Inductor)
signal-integrity model Inductor
pins: 1, 2

## Jumper
designator W?
Jumper Wire; Manufacturer: HARWIN; Manufacturer Part Number: M20-8770242; Product Range: HARWIN - M20-87 Series; Terminaison du contact: PCB; Genre: Connecteur mâle; Nombre de contacts: 2; Nombre de rangées: 1; Pas: 2.54; Plaquage du contact: Or; Matériau du contact: Laiton; SVHC: No SVHC (20-Jun-2013); Published: 24-Mar-1999; LatestRevisionDate: 17-Jul-2002; LatestRevisionNote: Re-released for DXP Platform.; PackageReference: RAD-0.2; Publisher: Altium Limited; PackageDescription: Radial Cap, Thru-Hole; 2 Leads; 0.2 in Pin Spacing; Supplier 1: Farnell; Supplier Part Number 1: 1895211; RoHS: YES; Pricing 1: 10=0,137, 20=0,136, 50=0,135, 100=0,133, 250=0,128, 500=0,12 (EUR); ComponentLink1URL: http://www.farnell.com/cad/1330190.pdf; ComponentLink1Description: http://www.farnell.com/cad/1330190.pdf
footprint M20_1X2 (Connecteur Harwin_M20-8770242)
pins: 1 C1, 2 C2

## LM1117DT-3.3
designator U?, comment LM1117 3.3
800mA Low-Dropout Linear Regulator, 3-pin TO-252; Manufacturer: DIODES INC.; Manufacturer Part Number: AP1117D33G-13; Tension d'entrée primaire: 18; Tension de sortie fixe: 3.3; Tension, déclenchement: 1.3; Nombre de broches: 3; Courant, sortie: 1; Température d'utilisation min: 0; Température de fonctionnement max..: 125; SVHC: No SVHC (19-Dec-2012); Racine de la référence: 1117; Température de fonctionnement: 0°C à +125; Supplier 1: Farnell; Supplier Part Number 1: 1825285; RoHS: YES; Stock 1: 2493; Pricing 1: 1=0,23, 10=0,21, 100=0,19, 250=0,181, 500=0,163 (EUR); Type de boîtier CI régulateur de tension: TO-252; Tension, sortie: 3.3; ComponentLink1URL: http://www.farnell.com/datasheets/608751.pdf; ComponentLink1Description: http://www.farnell.com/datasheets/608751.pdf
footprint TO252
pins: 1 GND (power), 3 IN (power), 4 OUT (power)

## LM1117DT-5.0
designator U?
800mA Low-Dropout Linear Regulator, 3-pin TO-252; Manufacturer: NXP; Manufacturer Part Number: NX1117C50Z; Tension d'entrée primaire: 20; Tension de sortie fixe: 5; Tension, déclenchement: 1.07; Type de boîtier CI régulateur de tension: SOT-223; Nombre de broches: 4; Courant, sortie: 800; Température d'utilisation min: -40; Température de fonctionnement max..: 125; SVHC: No SVHC (20-Jun-2013); Température de fonctionnement: -40°C à +125; Supplier 1: Farnell; Supplier Part Number 1: 2057275; RoHS: YES; Pricing 1: 1=0,36, 10=0,29, 100=0,26, 250=0,24, 500=0,22 (EUR); MSL: (Non Disponible); ComponentLink1URL: http://www.nxp.com/documents/data_sheet/NX1117C_NX1117CE_SER.pdf; ComponentLink1Description: http://www.nxp.com/documents/data_sheet/NX1117C_NX1117CE_SER.pdf; ComponentLink2URL: http://www.farnell.com/cad/1722034.zip; ComponentLink2Description: http://www.farnell.com/cad/1722034.zip
footprint SOT223
pins: 1 GND (power), 3 IN (power), 4 OUT (power)

## LM2576HVT-12
designator U?, comment LM2576S-12
SIMPLE SWITCHER® 3A Step-Down Voltage Regulator, 5-pin TO-220; Manufacturer: MICREL SEMICONDUCTOR; Manufacturer Part Number: LM2576-5.0WU; Supplier 1: Farnell; Supplier Part Number 1: 2100269; RoHS: YES; Pricing 1: 1=3,26, 10=2,67, 100=2,02, 250=1,9, 500=1,85 (EUR); ComponentLink1URL: http://www.farnell.com/datasheets/246395.pdf; ComponentLink1Description: http://www.farnell.com/datasheets/246395.pdf
footprint TO263-5
pins: 1 VIN (power), 2 OUT (power), 3 GND (power), 4 FB (in), 5 ~{ON}/OFF (in)

## LMC555CM/NOPB
designator U?
CMOS Timer, 8-pin Narrow SOIC, Pb-Free; Manufacturer: TEXAS INSTRUMENTS; Supplier 1: Farnell; Supplier Part Number 1: 1469005; Manufacturer Part Number: LMC555CM/NOPB; RoHS: YES; Pricing 1: 1=1,13, 10=0,76, 100=0,6, 250=0,53, 500=0,46 (EUR); ComponentLink1URL: http://www.farnell.com/datasheets/1642282.pdf; ComponentLink1Description: http://www.farnell.com/datasheets/1642282.pdf
footprint MO8A
pins: 1 GND (power), 2 ~{TRIG} (in), 3 OUT (out), 4 ~{RST} (in), 5 CVOLT, 6 THR (in), 7 DIS (oc), 8 V+ (power)

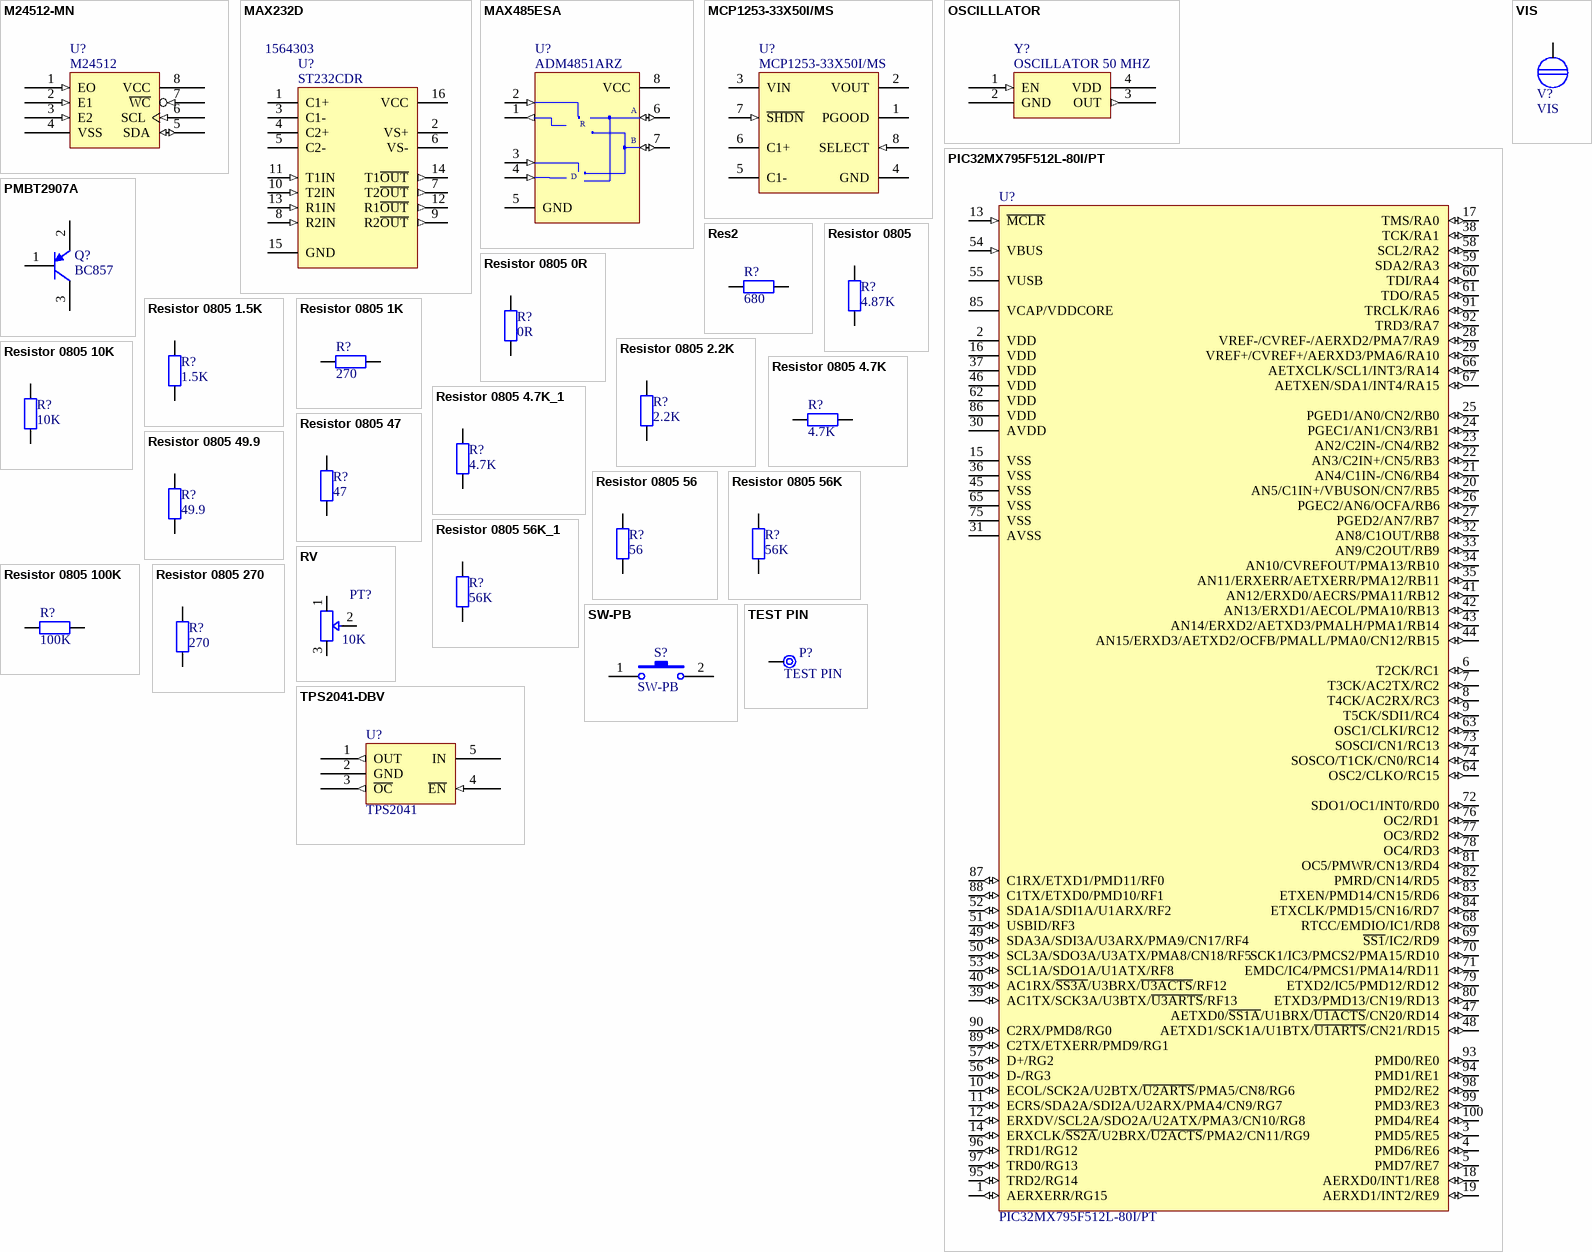
[diagram p1: symbols M24512-MN to VIS]

## M24512-MN
designator U?, comment M24512
EEPROM 512K I2C; Manufacturer: STMICROELECTRONICS; Manufacturer Part Number: M24512-WMN6P; Supplier 1: Farnell; RoHS: YES; Pricing 1: 1=1,2, 10=1,08, 100=0,96 (EUR); ComponentLink1URL: http://www.st.com/st-web-ui/static/active/en/resource/technical/document/datasheet/CD00251873.pdf; ComponentLink1Description: http://www.st.com/st-web-ui/static/active/en/resource/technical/document/datasheet/CD00251873.pdf; ComponentLink2URL: http://www.farnell.com/cad/1550662.zip; ComponentLink2Description: http://www.farnell.com/cad/1550662.zip; Supplier Part Number 1: 1670818
footprint SOIC8
pins: 1 EO (in) "Chip Enable", 2 E1 (in) "Chip Enable", 3 E2 (in) "Chip Enable", 4 VSS (power) "Ground", 5 SDA (io) "Serial Data", 6 SCL (in) "Serial Clock", 7 ~{WC} (in) "Write control", 8 VCC (power) "Supply voltage"

## MAX232D
designator U?, comment ST232CDR  Supplier Part Number 1: 1564303
Dual EIA-232 Driver/Receiver; Manufacturer: STMICROELECTRONICS; Type de driver: Driver / Récepteur de ligne; Type d'interface CI: RS232; Nombre de drivers: 2; Tension, alimentation min.: 4.5; Tension, alimentation max..: 5.5; Type de boîtier CI Driver: SOIC; Nombre de broches: 16; Température d'utilisation min: 0; Température de fonctionnement max..: 70; SVHC: No SVHC (19-Dec-2012); Courant, alimentation: 5; Gamme de tension d'alimentation: 4.5V à 5.5; Interface: RS232, V.28; Racine de la référence: 232; Taux de transfert: 220; Technologie: Transceivers; Temps de propagation: 0.3; Température de fonctionnement: 0°C à +70; Type de terminaison: SMD; Supplier 1: Farnell; Manufacturer Part Number: ST232CDR; RoHS: YES; Stock 1: 7532; Pricing 1: 1=0,8, 10=0,75, 100=0,71, 250=0,61, 500=0,56 (EUR); MSL: MSL 1 - Illimité; Nombre de récepteurs: 2; Type de boîtier: SOIC; ComponentLink1URL: http://www.st.com/web/en/resource/technical/document/datasheet/CD00001703.pdf; ComponentLink1Description: http://www.st.com/web/en/resource/technical/document/datasheet/CD00001703.pdf; ComponentLink2URL: http://www.farnell.com/cad/1725166.zip; ComponentLink2Description: http://www.farnell.com/cad/1725166.zip
footprint SO-16
pins: 1 C1+, 2 VS+ (power), 3 C1-, 4 C2+, 5 C2-, 6 VS- (power), 7 T2~{OUT} (out), 8 R2IN (in), 9 R2~{OUT} (out), 10 T2IN (in), 11 T1IN (in), 12 R1~{OUT} (out), 13 R1IN (in), 14 T1~{OUT} (out), 15 GND (power), 16 VCC (power)

## MAX485ESA
designator U?, comment ADM4851ARZ
Low-Power, Slew-Rate-Limited RS-485/RS-422 Transceiver; Manufacturer: ANALOG DEVICES; Type de driver: Émetteur-récepteur de ligne différentiel; Type d'interface CI: RS422, RS485; Nombre de drivers: 1; Tension, alimentation min.: 4.75; Tension, alimentation max..: 5.25; Type de boîtier CI Driver: NSOIC; Nombre de broches: 8; Température d'utilisation min: -40; Température de fonctionnement max..: 85; SVHC: No SVHC (20-Jun-2013); Supplier 1: Farnell; Supplier Part Number 1: 2313594; Manufacturer Part Number: ADM4851ARZ; RoHS: YES; Pricing 1: 1=1,39, 10=1,13, 100=1,01, 250=0,9, 500=0,79 (EUR); MSL: MSL 1 - Illimité; ComponentLink1URL: http://www.analog.com/static/imported-files/data_sheets/ADM4850_4851_4852_4853_4854_4855_4856_4857.pdf; ComponentLink1Description: http://www.analog.com/static/imported-files/data_sheets/ADM4850_4851_4852_4853_4854_4855_4856_4857.pdf; ComponentLink2URL: http://www.farnell.com/cad/1713403.zip; ComponentLink2Description: http://www.farnell.com/cad/1713403.zip
footprint SOIC8
pins: 1 RO (out), 2 ~{RE} (in), 3 DE (in), 4 DI (in), 5 GND (power), 6 A (io), 7 B (io), 8 VCC (power)
text: R; D

## MCP1253-33X50I/MS
designator U?
Low Noise, Positive-Regulated Charge Pump, 1MHz, Fixed Output, 8-Pin MSOP, Industrial Temperature; Manufacturer: MICROCHIP; Tension d'entrée primaire: 5.5; Nombre de canaux de sortie: 1; Courant, sortie: 100; Nombre de broches: 8; Température d'utilisation min: -45; Température de fonctionnement max..: 85; SVHC: No SVHC (20-Jun-2013); Courant, sortie max.: 150; Fréquence: 1000; Précision: 2.5%; Racine de la référence: 1253; Température de fonctionnement: -45°C à +85; Tension, alimentation min.: 2; Tension, sortie max..: 5; Type de régulation de tension: Positive, Low Noise; Type de terminaison: SMD; Supplier 1: Farnell; Supplier Part Number 1: 1332067; Manufacturer Part Number: MCP1253-33X50I/MS; RoHS: YES; Pricing 1: 1=1,73, 10=1,23, 100=0,99 (EUR); Tension, sortie: 5.5; Type de boîtier CI régulateur de tension: MSOP; MSL: MSL 1 - Illimité; Marquage composant: MCP1253-33X50; Tension, alimentation max..: 5.5; Tension, entrée max..: 5.5; Type de boîtier: MSOP; ComponentLink1URL: http://ww1.microchip.com/downloads/en/devicedoc/21752a.pdf; ComponentLink1Description: http://ww1.microchip.com/downloads/en/devicedoc/21752a.pdf; ComponentLink2URL: http://www.farnell.com/cad/1545296.zip; ComponentLink2Description: http://www.farnell.com/cad/1545296.zip
footprint MSOP-8 (TSOP, 8-Leads, Body 3,00x3,00mm, Pitch 0,65mm, IPC Medium Density)
pins: 1 PGOOD (oc), 2 VOUT (power), 3 VIN (power), 4 GND (power), 5 C1-, 6 C1+, 7 ~{SHDN} (in), 8 SELECT (in)

## OSCILLLATOR
designator Y?, comment OSCILLATOR 50 MHZ
50 MHZ 3.3Vdc CMOS SMD CRYSTAL CLOCK OSCILLATOR; Manufacturer: ABRACON; Manufacturer Part Number: ASE-50.000MHZ-LR-T; Fréquence: 50; Stabilité en fréquence: ± 25; Tension, alimentation min.: 3.135; Tension, alimentation max..: 3.465; Capacité, charge: 15; Oscillator Mounting: CMS; Nombre de broches: 4; Température d'utilisation min: -40; Température de fonctionnement max..: 85; SVHC: No SVHC (19-Dec-2012); Température de fonctionnement: -40°C à +85; Tension d'alimentation: 3.3; Supplier 1: Farnell; RoHS: YES; Pricing 1: 1=2,76, 10=2,38, 50=1,8, 100=1,6, 200=1,26, 500=1,22 (EUR); ComponentLink1URL: http://www.abracon.com/Oscillators/ASEseries.pdf; ComponentLink1Description: http://www.abracon.com/Oscillators/ASEseries.pdf; Supplier Part Number 1: 2101315
footprint X3225 (CRYSTAL CLOCK OSCILLATOR 3.2X2.5MM)
pins: 1 EN (in) "Tris-state", 2 GND (power) "Tris-state", 3 OUT (out) "Tris-state", 4 VDD (power) "Tris-state"

## PIC32MX795F512L-80I/PT
designator U?
High Performance 80 MHz MIPS-Based 32-Bit Flash Microcontroller with USB, CAN and Ethernet, 512KB Program Memory, 100-pin TQFP, Industrial Temperature; Published: 2-Dec-2009; DatasheetVersion: revB, Nov-2009; PackageVersion: revBB, Aug-2009; PackageReference: TQFP-PT100; Publisher: Altium Limited; PackageDescription: 100-Lead Plastic Thin Quad Flatpack (PT) - 12x12x1mm Body, 2.00mm [TQFP]; Supplier 1: Digi-Key; Supplier Part Number 1: 1778492; Supplier 2: Farnell; Supplier Part Number 2: 1778492; ComponentLink1Description: Datasheet; ComponentLink1URL: http://ww1.microchip.com/downloads/en/DeviceDoc/DS-61156B.pdf; ComponentLink2Description: Packaging Specification; ComponentLink2URL: http://ww1.microchip.com/downloads/en/PackagingSpec/en012702.pdf; ComponentLink3Description: Microchip.com Home; ComponentLink3URL: http://www.microchip.com/
footprint TQFP100pt (TSQFP, 100-Leads, Body 12,00x12,00mm, Pitch 0,40mm, IPC Medium Density)
pins: 1 AERXERR/RG15 (io), 2 VDD (power), 3 PMD5/RE5 (io), 4 PMD6/RE6 (io), 5 PMD7/RE7 (io), 6 T2CK/RC1 (io), 7 T3CK/AC2TX/RC2 (io), 8 T4CK/AC2RX/RC3 (io), 9 T5CK/SDI1/RC4 (io), 10 ECOL/SCK2A/U2BTX/~{U2ARTS}/PMA5/CN8/RG6 (io), 11 ECRS/SDA2A/SDI2A/U2ARX/PMA4/CN9/RG7 (io), 12 ERXDV/SCL2A/SDO2A/U2ATX/PMA3/CN10/RG8 (io), 13 ~{MCLR} (in), 14 ERXCLK/~{SS2A}/U2BRX/~{U2ACTS}/PMA2/CN11/RG9 (io), 15 VSS (power), 16 VDD (power), 17 TMS/RA0 (io), 18 AERXD0/INT1/RE8 (io), 19 AERXD1/INT2/RE9 (io), 20 AN5/C1IN+/VBUSON/CN7/RB5 (io), 21 AN4/C1IN-/CN6/RB4 (io), 22 AN3/C2IN+/CN5/RB3 (io), 23 AN2/C2IN-/CN4/RB2 (io), 24 PGEC1/AN1/CN3/RB1 (io), 25 PGED1/AN0/CN2/RB0 (io), 26 PGEC2/AN6/OCFA/RB6 (io), 27 PGED2/AN7/RB7 (io), 28 VREF-/CVREF-/AERXD2/PMA7/RA9 (io), 29 VREF+/CVREF+/AERXD3/PMA6/RA10 (io), 30 AVDD (power), 31 AVSS (power), 32 AN8/C1OUT/RB8 (io), 33 AN9/C2OUT/RB9 (io), 34 AN10/CVREFOUT/PMA13/RB10 (io), 35 AN11/ERXERR/AETXERR/PMA12/RB11 (io), 36 VSS (power), 37 VDD (power), 38 TCK/RA1 (io), 39 AC1TX/SCK3A/U3BTX/~{U3ARTS}/RF13 (io), 40 AC1RX/~{SS3A}/U3BRX/~{U3ACTS}/RF12 (io), 41 AN12/ERXD0/AECRS/PMA11/RB12 (io), 42 AN13/ERXD1/AECOL/PMA10/RB13 (io), 43 AN14/ERXD2/AETXD3/PMALH/PMA1/RB14 (io), 44 AN15/ERXD3/AETXD2/OCFB/PMALL/PMA0/CN12/RB15 (io), 45 VSS (power), 46 VDD (power), 47 AETXD0/~{SS1A}/U1BRX/~{U1ACTS}/CN20/RD14 (io), 48 AETXD1/SCK1A/U1BTX/~{U1ARTS}/CN21/RD15 (io), 49 SDA3A/SDI3A/U3ARX/PMA9/CN17/RF4 (io), 50 SCL3A/SDO3A/U3ATX/PMA8/CN18/RF5 (io), 51 USBID/RF3 (io), 52 SDA1A/SDI1A/U1ARX/RF2 (io), 53 SCL1A/SDO1A/U1ATX/RF8 (io), 54 VBUS (in), 55 VUSB (power), 56 D-/RG3 (io), 57 D+/RG2 (io), 58 SCL2/RA2 (io), 59 SDA2/RA3 (io), 60 TDI/RA4 (io), 61 TDO/RA5 (io), 62 VDD (power), 63 OSC1/CLKI/RC12 (io), 64 OSC2/CLKO/RC15 (io), 65 VSS (power), 66 AETXCLK/SCL1/INT3/RA14 (io), 67 AETXEN/SDA1/INT4/RA15 (io), 68 RTCC/EMDIO/IC1/RD8 (io), 69 ~{SS1}/IC2/RD9 (io), 70 SCK1/IC3/PMCS2/PMA15/RD10 (io), 71 EMDC/IC4/PMCS1/PMA14/RD11 (io), 72 SDO1/OC1/INT0/RD0 (io), 73 SOSCI/CN1/RC13 (io), 74 SOSCO/T1CK/CN0/RC14 (io), 75 VSS (power), 76 OC2/RD1 (io), 77 OC3/RD2 (io), 78 OC4/RD3 (io), 79 ETXD2/IC5/PMD12/RD12 (io), 80 ETXD3/PMD13/CN19/RD13 (io), 81 OC5/PMWR/CN13/RD4 (io), 82 PMRD/CN14/RD5 (io), 83 ETXEN/PMD14/CN15/RD6 (io), 84 ETXCLK/PMD15/CN16/RD7 (io), 85 VCAP/VDDCORE (power), 86 VDD (power), 87 C1RX/ETXD1/PMD11/RF0 (io), 88 C1TX/ETXD0/PMD10/RF1 (io), 89 C2TX/ETXERR/PMD9/RG1 (io), 90 C2RX/PMD8/RG0 (io), 91 TRCLK/RA6 (io), 92 TRD3/RA7 (io), 93 PMD0/RE0 (io), 94 PMD1/RE1 (io), 95 TRD2/RG14 (io), 96 TRD1/RG12 (io), 97 TRD0/RG13 (io), 98 PMD2/RE2 (io), 99 PMD3/RE3 (io), 100 PMD4/RE4 (io)

## PMBT2907A
designator Q?, comment BC857
PNP Switching Transistor; Manufacturer: NXP; Supplier 1: Farnell; Supplier Part Number 1: 1081244; Manufacturer Part Number: BC857; RoHS: YES; Stock 1: 28017; Pricing 1: 10=0,023, 100=0,021, 1000=0,019, 3000=0,017 (EUR); ComponentLink1URL: http://www.nxp.com/documents/data_sheet/BC856_BC857_BC858.pdf; ComponentLink1Description: http://www.nxp.com/documents/data_sheet/BC856_BC857_BC858.pdf
footprint SOT-23
pins: 1 B, 2 E, 3 C

## Res2
designator R?  value 680  (hidden comment: Res2)
Resistor; Published: 8-Jun-2000; LatestRevisionDate: 17-Jul-2002; LatestRevisionNote: Re-released for DXP Platform.; PackageReference: AXIAL-0.4; Publisher: Altium Limited; PackageDescription: Axial Device, Thru-Hole; 2 Leads; 0.4 in Pin Spacing
simulation model RESISTOR (Resistor)
signal-integrity model Res
footprint R0805
pins: 1, 2

## Resistor 0805
designator R?, comment 4.87K
Resistor; Manufacturer: MULTICOMP; Manufacturer Part Number: MC01W080514K87; Supplier 1: Farnell; Supplier Part Number 1: 2129169; RoHS: YES; Pricing 1: 5000=0,001 (EUR); ComponentLink1URL: http://www.farnell.com/datasheets/1729047.pdf; ComponentLink1Description: http://www.farnell.com/datasheets/1729047.pdf
footprint R0805
pins: 1, 2

## Resistor 0805 0R
designator R?, comment 0R
Resistor or Jumper; Manufacturer: MULTICOMP; Manufacturer Part Number: MCMR08X000 PTL; Product Range: MULTICOMP - MCMR Series; Résistance: 0; Puissance: 125; Tolérance de résistance: ± 0.05; Type de boîtier de résistance: 0805; Type de résistance: Céramique; Coefficient de température: -200ppm/°C à +400; Tension: 150; Type de packaging: Cut Tape; Resistor Mounting: CMS; Supplier 1: Farnell; Supplier Part Number 1: 2073603; RoHS: YES; Pricing 1: 100=0,011, 500=0,009, 1000=0,008 (EUR); MSL: MSL 1 - Illimité; ComponentLink1URL: http://www.farnell.com/datasheets/1716708.pdf; ComponentLink1Description: http://www.farnell.com/datasheets/1716708.pdf
footprint R0805
pins: 1, 2

## Resistor 0805 1.5K
designator R?, comment 1.5K
Resistor; Manufacturer: MULTICOMP; Manufacturer Part Number: MC00625W040211K5; Supplier 1: Farnell; RoHS: YES; Pricing 1: 10000=0,001 (EUR); ComponentLink1URL: http://www.farnell.com/datasheets/1729045.pdf; ComponentLink1Description: http://www.farnell.com/datasheets/1729045.pdf; Supplier Part Number 1: 2130366
footprint R0805
pins: 1, 2

## Resistor 0805 1K
designator R?, comment 270
Resistor; Manufacturer: MULTICOMP; Manufacturer Part Number: MC0.1W08051%1KFR; Product Range: MULTICOMP - MC Series; Résistance: 1; Puissance: 100; Tolérance de résistance: ± 1%; Type de boîtier de résistance: 0805; Type de résistance: Couche épaisse; Coefficient de température: ± 100; Tension: 150; Type de packaging: Full Reel; Resistor Mounting: CMS; Supplier 1: Farnell; RoHS: YES; Pricing 1: 5000=0,001 (EUR); MSL: MSL 1 - Illimité; ComponentLink1URL: http://www.farnell.com/datasheets/1716700.pdf; ComponentLink1Description: http://www.farnell.com/datasheets/1716700.pdf; Supplier Part Number 1: 2129113
simulation model RESISTOR (Resistor)
signal-integrity model Res
footprint R0805
pins: 1, 2

## Resistor 0805 2.2K
designator R?, comment 2.2K
Resistor; Manufacturer: MULTICOMP; Manufacturer Part Number: MC01W080512K2; Supplier 1: Farnell; RoHS: YES; Pricing 1: 5000=0,001 (EUR); ComponentLink1URL: http://www.farnell.com/datasheets/1729047.pdf; ComponentLink1Description: http://www.farnell.com/datasheets/1729047.pdf; Supplier Part Number 1: 2129138
footprint R0805
pins: 1, 2

## Resistor 0805 4.7K
designator R?, comment 4.7K
Resistor; Manufacturer: MULTICOMP; Manufacturer Part Number: MC01W080514K7; Product Range: MULTICOMP - MC Series; Résistance: 4.7; Puissance: 100; Tolérance de résistance: ± 1%; Type de boîtier de résistance: 0805; Type de résistance: Couche épaisse; Coefficient de température: ± 100; Tension: 150; Type de packaging: Full Reel; SVHC: No SVHC (20-Jun-2013); Resistor Mounting: CMS; Supplier 1: Farnell; RoHS: YES; Pricing 1: 5000=0,001 (EUR); MSL: (Non Applicable); ComponentLink1URL: http://www.farnell.com/datasheets/1729047.pdf; ComponentLink1Description: http://www.farnell.com/datasheets/1729047.pdf; Supplier Part Number 1: 2129167
simulation model RESISTOR (Resistor)
signal-integrity model Res
footprint R0805
pins: 1, 2